# Altium footprint library RelayPcbLib.PcbLib: 6 footprints
Each footprint in its own frame and in the unit in brackets; x right, y up, seen from the top. Pads: shape width x height; smd on the part's side, far side on the other; paste and mask are expansions set on the pad; w line width, h text height; cw(c..) or ccw(c..) is an arc to the next point about the centre after c.
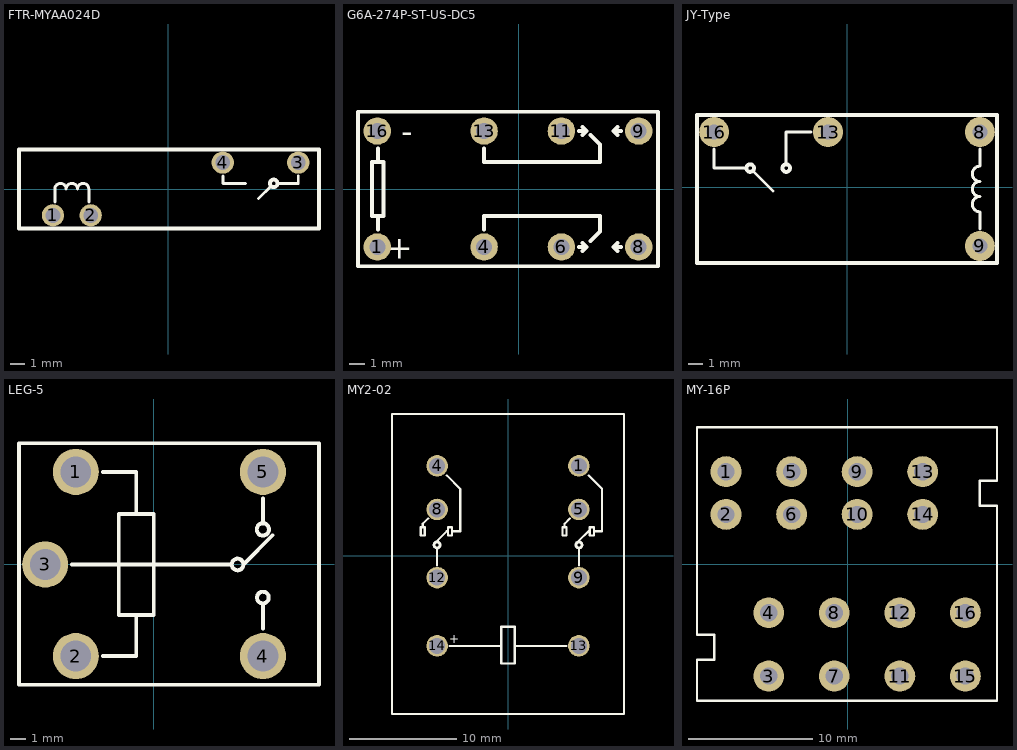
[diagram p0: the footprints below, top view; thin cyan lines are the x and y axes]

## FTR-MYAA024D [mm] "ªø 20mm ¼e 9.8mm °ª12.8mm"
height 12.8
pads (4):
  round 1.5 hole 1: 1(-7.747,-1.772) 2(-5.207,-1.772) 3(8.763,1.778) 4(3.683,1.778)
Top Overlay:
  circle w0.254: c7.112,0.381 r0.254
  lines w0.2: -7.62,-0.889 -7.62,0 cw(c-7.239,0) -6.858,0 cw(c-6.477,0) -6.096,0 cw(c-5.715,0) -5.334,0 -5.334,-0.889 ; 3.683,0.889 3.683,0.381 5.207,0.381 ; 6.096,-0.635 6.921,0.191 ; 7.366,0.381 8.763,0.381 8.763,0.889
  lines w0.254: -10.033,-2.667 10.16,-2.667 10.16,2.667 -10.033,2.667 -10.033,-2.667
3D body: height 12.1, standoff -3.3, extent -9.98,-2.5 10.02,2.5

## G6A-274P-ST-US-DC5 [mm]
pads (8):
  round 1.8 hole 1.05: 1(-9.306,-3.81) 4(-2.286,-3.81) 6(2.794,-3.81) 8(7.874,-3.81) 9(7.874,3.81) 11(2.794,3.81) 13(-2.286,3.81) 16(-9.306,3.81)
Top Overlay:
  lines w0.254: -9.271,-2.667 -9.271,-1.778 ; -9.271,1.778 -9.271,2.667 ; -2.286,-2.667 -2.286,-1.778 5.334,-1.778 5.334,-2.794 4.699,-3.429 ; -2.286,2.667 -2.286,1.778 5.334,1.778 5.334,2.921 4.699,3.556 ; 3.937,-3.81 4.445,-3.81 ; 3.937,3.81 4.445,3.81 ; 4.191,-4.064 4.445,-3.81 ; 4.191,-3.556 4.445,-3.81 ; 4.191,3.556 4.445,3.81 ; 4.191,4.064 4.445,3.81 ; 6.477,-4.064 6.223,-3.81 ; 6.477,-3.556 6.223,-3.81 ; 6.477,3.556 6.223,3.81 ; 6.477,4.064 6.223,3.81 ; 6.731,-3.81 6.223,-3.81 ; 6.731,3.81 6.223,3.81 ; -10.576,-5.08 -10.576,3.81 -10.576,5.08 -9.306,5.08 9.144,5.08 9.144,-3.81 9.144,-5.08 7.874,-5.08 -10.576,-5.08 ; -9.652,-1.778 -9.652,1.778 -8.89,1.778 -8.89,-1.778 -9.652,-1.778
  text "+" at -6.985,-4.572 h1.5
  text "-" at -6.985,3.048 h1.5

## JY-Type [mm] "ªø 20mm ¼e 5mm °ª12mm"
height 12.8
pads (4):
  round 2 hole 1: 8(8.89,3.683) 9(8.89,-3.937) 13(-1.27,3.683) 16(-8.89,3.683)
Top Overlay:
  circle w0.254: c-4.064,1.27 r0.254
  circle w0.254: c-6.477,1.27 r0.254
  lines w0.2: -8.89,2.54 -8.89,1.27 -6.731,1.27 ; -6.223,1.016 -4.953,-0.254 ; -4.064,1.524 -4.064,3.683 -2.413,3.683 ; 8.89,-2.794 8.89,-1.651 cw(c8.89,-1.143) 8.89,-0.635 cw(c8.89,-0.127) 8.89,0.381 cw(c8.89,0.889) 8.89,1.397 8.89,2.54
  lines w0.254: -10.033,-5.08 -10.033,4.826 10.033,4.826 10.033,-5.08 -10.033,-5.08
3D body: height 2.8, standoff -13.4, extent -10.127,-5.207 9.873,4.693

## LEG-5 [mm]
pads (5):
  round 3 hole 2: 1(-5.088,6.031) 2(-5.088,-5.969) 3(-7.088,0) 4(7.112,-5.969) 5(7.112,6.031)
Top Overlay:
  circle w0.254: c7.104,-2.159 r0.381
  circle w0.254: c7.104,2.286 r0.402
  circle w0.254: c5.453,0 r0.381
  lines w0.254: -5.342,0 5.072,0 ; -3.31,-5.969 -1.151,-5.969 -1.151,-3.302 ; -3.31,6.031 -1.151,6.031 -1.151,3.302 ; 5.834,0 7.739,1.905 ; 7.112,-4.191 7.112,-2.613 ; 7.112,2.675 7.112,4.318 ; -8.794,-7.843 10.764,-7.843 10.764,7.905 -8.794,7.905 -8.794,-7.843 ; -2.294,-3.302 -2.294,3.302 -0.008,3.302 -0.008,-3.302 -2.294,-3.302

## MY2-02 [mm]
pads (8):
  round 2 hole 1.5: 1(6.6,8.38) 4(-6.6,8.38) 5(6.6,4.32) 8(-6.6,4.32) 9(6.6,-2.03) 12(-6.6,-2.03) 13(6.6,-8.38) 14(-6.6,-8.38)
Top Overlay:
  circle w0.254: c-6.604,1.016 r0.284
  circle w0.254: c6.604,1.016 r0.284
  lines w0.2: -7.938,2.667 -7.938,2.982 -7.428,3.491 ; -6.604,-0.889 -6.604,0.635 ; -6.604,1.27 -6.604,1.397 -5.715,2.286 ; -5.714,7.494 -4.445,6.225 -4.445,2.286 -5.207,2.286 ; -5.461,-8.382 -0.635,-8.382 ; 0.635,-8.382 5.461,-8.382 ; 5.271,2.667 5.271,2.982 5.78,3.491 ; 6.604,-0.889 6.604,0.635 ; 6.604,1.27 6.604,1.397 7.493,2.286 ; 7.494,7.494 8.763,6.225 8.763,2.286 8.001,2.286 ; -10.795,-14.73 -10.795,13.21 10.795,13.21 10.795,-14.73 -10.795,-14.73 ; -8.128,1.905 -7.747,1.905 -7.747,2.667 -8.128,2.667 -8.128,1.905 ; -5.588,1.905 -5.588,2.667 -5.207,2.667 -5.207,1.905 -5.588,1.905 ; -0.635,-10.033 -0.635,-6.604 0.635,-6.604 0.635,-10.033 -0.635,-10.033 ; 5.08,1.905 5.08,2.667 5.461,2.667 5.461,1.905 5.08,1.905 ; 7.62,1.905 8.001,1.905 8.001,2.667 7.62,2.667 7.62,1.905
  text "+" at -5.461,-8.128 h0.8
3D body: height 36, standoff -6.4, extent -10.75,-14.889 10.75,13.111

## MY-16P [mm]
pads (16):
  round 2.5 hole 1.4: 1(-9.843,7.469) 2(-9.843,4.009) 3(-6.393,-9.061) 4(-6.393,-3.941) 5(-4.543,7.469) 6(-4.543,4.009) 7(-1.093,-9.061) 8(-1.093,-3.941) 9(0.757,7.469) 10(0.757,4.009) 11(4.207,-9.061) 12(4.207,-3.941) 13(6.057,7.469) 14(6.057,4.009) 15(9.507,-9.061) 16(9.507,-3.941)
Top Overlay:
  lines w0.2: -12.192,-11.049 12.065,-11.049 12.065,4.699 10.668,4.699 10.668,6.731 12.065,6.731 12.065,11.049 -12.192,11.049 -12.192,-5.715 -10.795,-5.715 -10.795,-7.747 -12.192,-7.747 -12.192,-11.049
3D body: height 20.9, standoff 5.5, extent 5.08,-10 10.08,10
3D body: height 20.9, standoff 5.5, extent 0,-10 5,10
3D body: height 20.9, standoff 5.5, extent -5.08,-10 -0.08,10
3D body: height 20.9, standoff 5.5, extent -10.16,-10 -5.16,10
3D body: height 8.5, standoff -3.8, extent -12.277,-11 12.023,11